# Altium footprint library WREL_AD10.PcbLib: 52 footprints (part 2 of 4)
Each footprint in its own frame and in the unit in brackets; x right, y up, seen from the top. Pads: shape width x height; smd on the part's side, far side on the other; paste and mask are expansions set on the pad; w line width, h text height; cw(c..) or ccw(c..) is an arc to the next point about the centre after c.
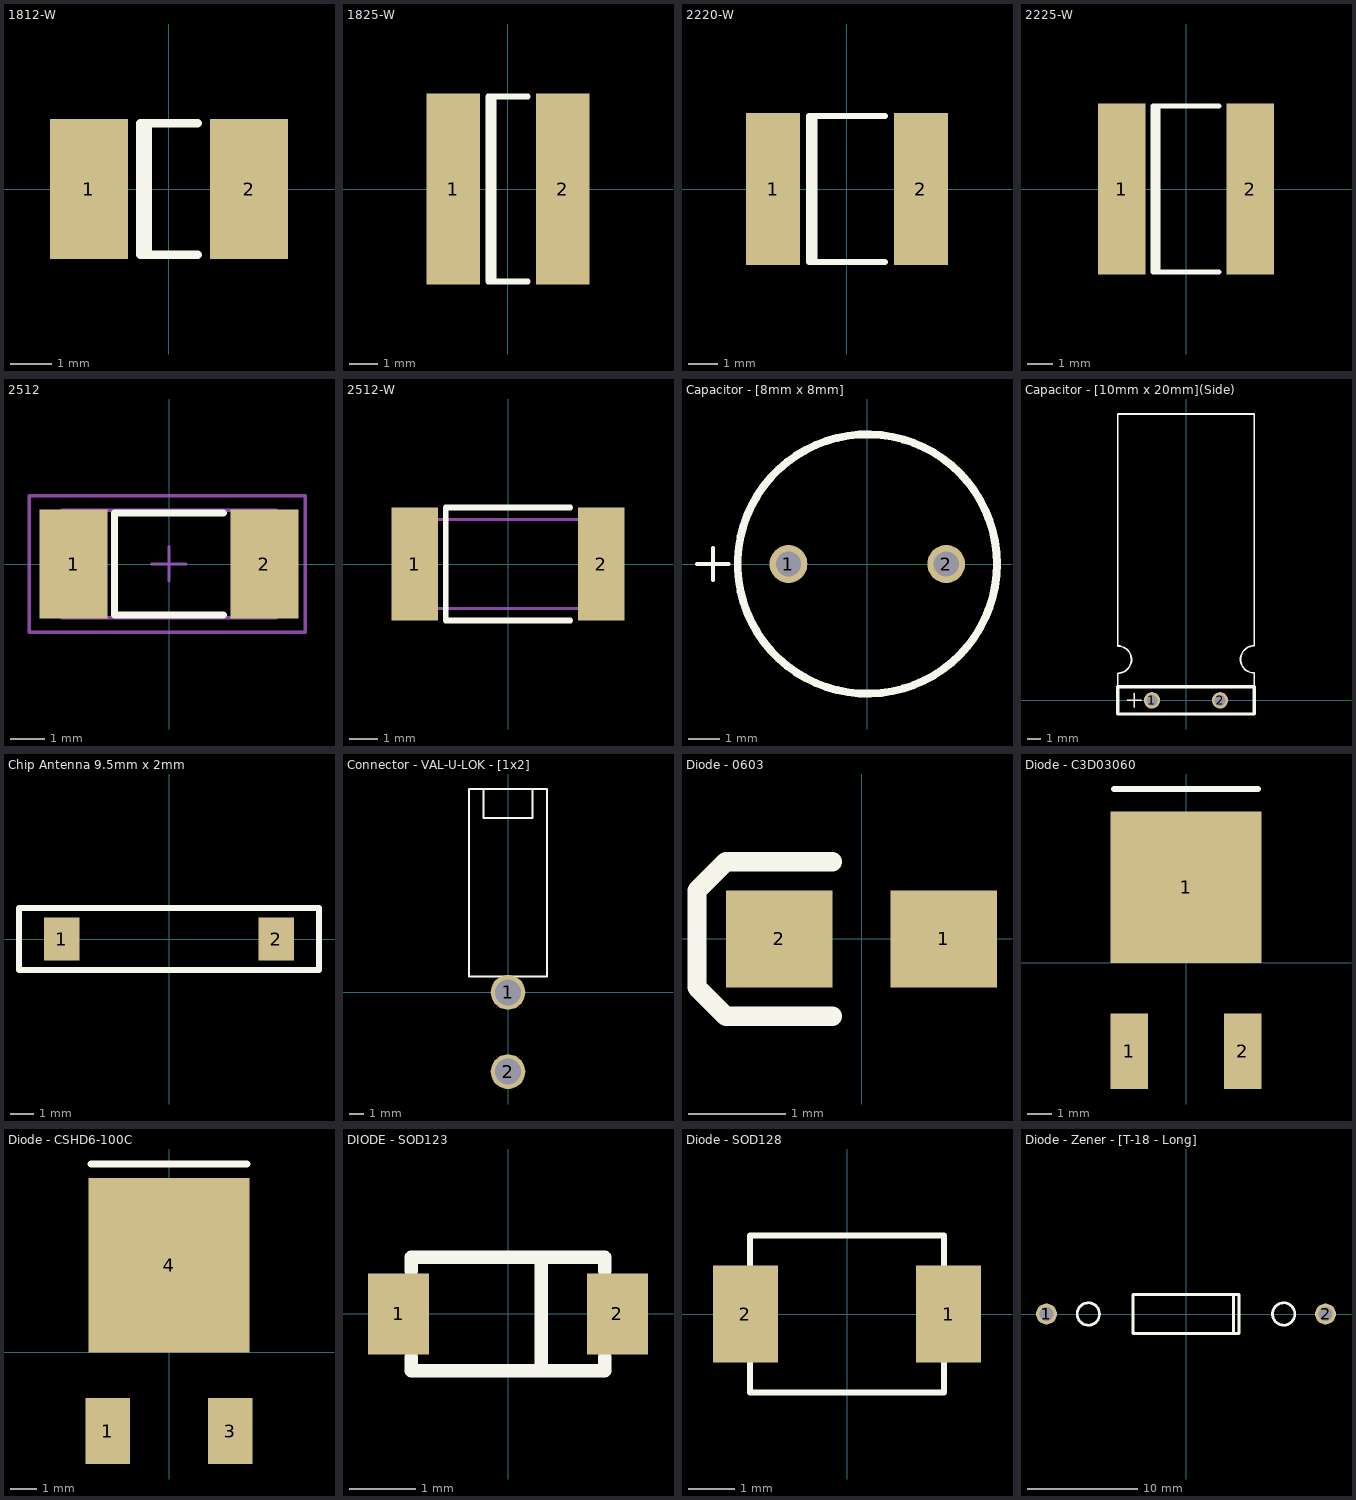
[diagram p1: the footprints below, top view; thin cyan lines are the x and y axes]

## 1812-W [mm] "Chip Capacitor; Body 4.5 x 3.2 mm (LxW typ)"
height 1.7
pads (2):
  rect 1.9x3.4 smd: 1(-1.95,0) 2(1.95,0)
Top Overlay:
  lines w0.2: -0.51,-1.6 -0.51,1.6 ; 0.7,-1.6 -0.7,-1.6 -0.7,1.6 0.7,1.6

## 1825-W [mm] "Chip Capacitor; Body 4.5 x 6.4 mm (LxW typ)"
height 1.7
pads (2):
  rect 1.9x6.8 smd: 1(-1.95,0) 2(1.95,0)
Top Overlay:
  lines w0.2: -0.51,-3.3 -0.51,3.3 ; 0.7,-3.3 -0.7,-3.3 -0.7,3.3 0.7,3.3

## 2220-W [mm] "Chip Capacitor; Body 5.7 x 5.0 mm (LxW typ)"
height 1.8
pads (2):
  rect 1.85x5.2 smd: 1(-2.525,0) 2(2.525,0)
Top Overlay:
  lines w0.2: -1.11,-2.5 -1.11,2.5 ; 1.3,-2.5 -1.3,-2.5 -1.3,2.5 1.3,2.5

## 2225-W [mm] "Chip Capacitor; Body 5.6 x 6.4 mm (LxW typ)"
height 2
pads (2):
  rect 1.9x6.8 smd: 1(-2.55,0) 2(2.55,0)
Top Overlay:
  lines w0.2: -1.11,-3.3 -1.11,3.3 ; 1.3,-3.3 -1.3,-3.3 -1.3,3.3 1.3,3.3

## 2512 [mm] "Chip Capacitor, Body 2.54x1.27mm, IPC Low Density"
height 0.6
pads (2):
  rect 2x3.2 smd: 1(-2.8,0) 2(2.8,0)
Top Overlay:
  lines w0.2: 1.6,-1.5 -1.6,-1.5 -1.6,1.5 1.6,1.5
Mechanical 13:
  lines w0.1: -3.15,-1.575 3.15,-1.575 3.15,1.575 -3.15,1.575 -3.15,-1.575
Mechanical 15:
  lines w0.1: -0.5,0 0.5,0 ; 0,-0.5 0,0.5 ; -4.1,-2 4,-2 4,2 -4.1,2 -4.1,-2
3D body: height 0.6, standoff 0, extent -3.15,-1.575 3.15,1.575

## 2512-W [mil]
height 82.68
pads (2):
  rect 65x158 smd: 1(-130,0) 2(130,0)
Top Overlay:
  lines w7.87: 86.54,-78.74 -86.69,-78.74 -86.69,78.74 86.54,78.74
Mechanical 13:
  lines w3.94: -124.01,-62 124.02,-62 124.02,62.01 -124.01,62.01 -124.01,-62
3D body: height 23.62, standoff 0, extent -124.01,-62 124.02,62.01

## Capacitor - [8mm x 8mm] [mm] "Electrolytic Capacitors, Radial Can [8mm x 8mm]"
height 9
pads (2):
  round 1.2 hole 0.8: 1(-2.5,0) 2(2.5,0)
Top Overlay:
  circle w0.25: c0,0 r4.111
  lines w0.127: -5.4,0 -4.4,0 ; -4.9,-0.5 -4.9,0.5
3D body: height 9, standoff 0, extent -3.968,-3.992 4,3.992

## Capacitor - [10mm x 20mm](Side) [mm] "Electrolytic Capacitors, Radial Can on side [10mm x 20mm]"
height 10
pads (2):
  round 1.2 hole 0.8: 1(-2.5,0) 2(2.5,0)
Top Overlay:
  lines w0.127: -5,1 -5,1.992 ccw(c-5,2.992) -5,3.992 -5,21 5,21 5,4.008 ccw(c5,3.008) 5,2.008 5,1 ; -4.3,0 -3.3,0 ; -3.8,-0.5 -3.8,0.5
  lines w0.254: -5,-1 5,-1 5,1 -5,1 -5,-1
3D body: height 10, standoff 0, extent -5,0.9 5,20.9

## Chip Antenna 9.5mm x 2mm [mm]
pads (2):
  rect 1.5x1.8 smd: 1(-4.5,0) 2(4.5,0)
Top Overlay:
  lines w0.254: -6.3,-1.3 6.3,-1.3 6.3,1.3 -6.3,1.3 -6.3,-1.3
3D body: height 1.2, standoff 0, extent -6.3,-1.3 6.3,1.3

## Connector - VAL-U-LOK - [1x2] [mm] "Right Angle Connector: TE Connectivity, PN: 1586041-2"
height 9.8
pads (2):
  round 2.4 hole 1.8: 1(0,0) 2(0,-5.5)
Top Overlay:
  lines w0.127: -1.7,14.1 -1.7,12.1 1.7,12.1 1.7,14.1 ; -2.7,1.1 -2.7,14.1 2.7,14.1 2.7,1.1 -2.7,1.1

## Diode - 0603 [mm] "Diode: Body 1.6 x 0.8 mm (LxW typ)"
height 0.87
pads (2):
  rect 1.1x1 smd: 1(0.85,0) 2(-0.85,0)
Top Overlay:
  lines w0.2: -0.3,-0.8 -1.4,-0.8 -1.7,-0.5 -1.7,0.4 -1.7,0.5 -1.4,0.8 -0.3,0.8

## Diode - C3D03060 [mil] "TO-252-2 (Case connected to Pin 1)"
height 93.7
pads (3):
  rect 60x120 smd: 1(-90,-140) 2(90,-140)
  rect 240x240 smd: 1(0,120)
Top Overlay:
  lines w10: -114.17,275.59 114.17,275.59
3D body: height 81, standoff 0, extent -134.49,-198.19 134.5,236.31

## Diode - CSHD6-100C [mm] "D-Pak (Similar to TO-252AA)"
height 2.38
pads (3):
  rect 1.65x2.45 smd: 1(-2.28,-2.92) 3(2.28,-2.92)
  rect 5.97x6.48 smd: 4(0,3.24)
Top Overlay:
  lines w0.254: -2.9,7 2.9,7
3D body: height 2.06, standoff 0, extent -3.416,-4.134 3.416,6.902

## DIODE - SOD123 [mil] "SOD-123; 2 Leads; Body 2.7 x 1.6 mm, (LxW)"
height 53.15
pads (2):
  rect 36x48 smd: 1(-64.5,0) 2(64.5,0)
Top Overlay:
  lines w7.87: -57.09,-25.59 -57.09,-33.46 57.09,-33.46 57.09,-25.59 ; -57.09,25.59 -57.09,33.46 57.09,33.46 57.09,25.59 ; 19.68,-33.46 19.68,33.46
3D body: height 90.55, standoff 0, extent -57.09,-33.46 57.09,33.46

## Diode - SOD128 [mm] "Diode: Body 1.6 x 0.8 mm (LxW typ)"
height 0.87
pads (2):
  rect 1.4x2.1 smd: 1(2.2,0) 2(-2.2,0)
Top Overlay:
  lines w0.127: -2.1,-1.7 -2.1,1.7 2.1,1.7 2.1,-1.7 -2.1,-1.7
3D body: height 1.11, standoff 0, extent -2.6,-1.35 2.6,1.35

## Diode - Zener - [T-18 - Long] [mm] "Through Hole,  ON Semiconductor 1N53xxB, CASE 017AA-01"
height 3.68
pads (2):
  round 1.905 hole 1.27: 1(-12.7,0) 2(12.7,0)
Top Overlay:
  circle w0.254: c-8.89,0 r1.016
  circle w0.254: c8.89,0 r1.016
  lines w0.254: 4.318,-1.778 4.318,1.778 ; -4.826,-1.778 4.826,-1.778 4.826,1.778 -4.826,1.778 -4.826,-1.778